# Altium footprint library Connector_Samtec_HLE_SMD.PcbLib: 290 footprints (part 20 of 24)
Each footprint in its own frame and in the unit in brackets; x right, y up, seen from the top. Pads: shape width x height; smd on the part's side, far side on the other; paste and mask are expansions set on the pad; w line width, h text height; cw(c..) or ccw(c..) is an arc to the next point about the centre after c.
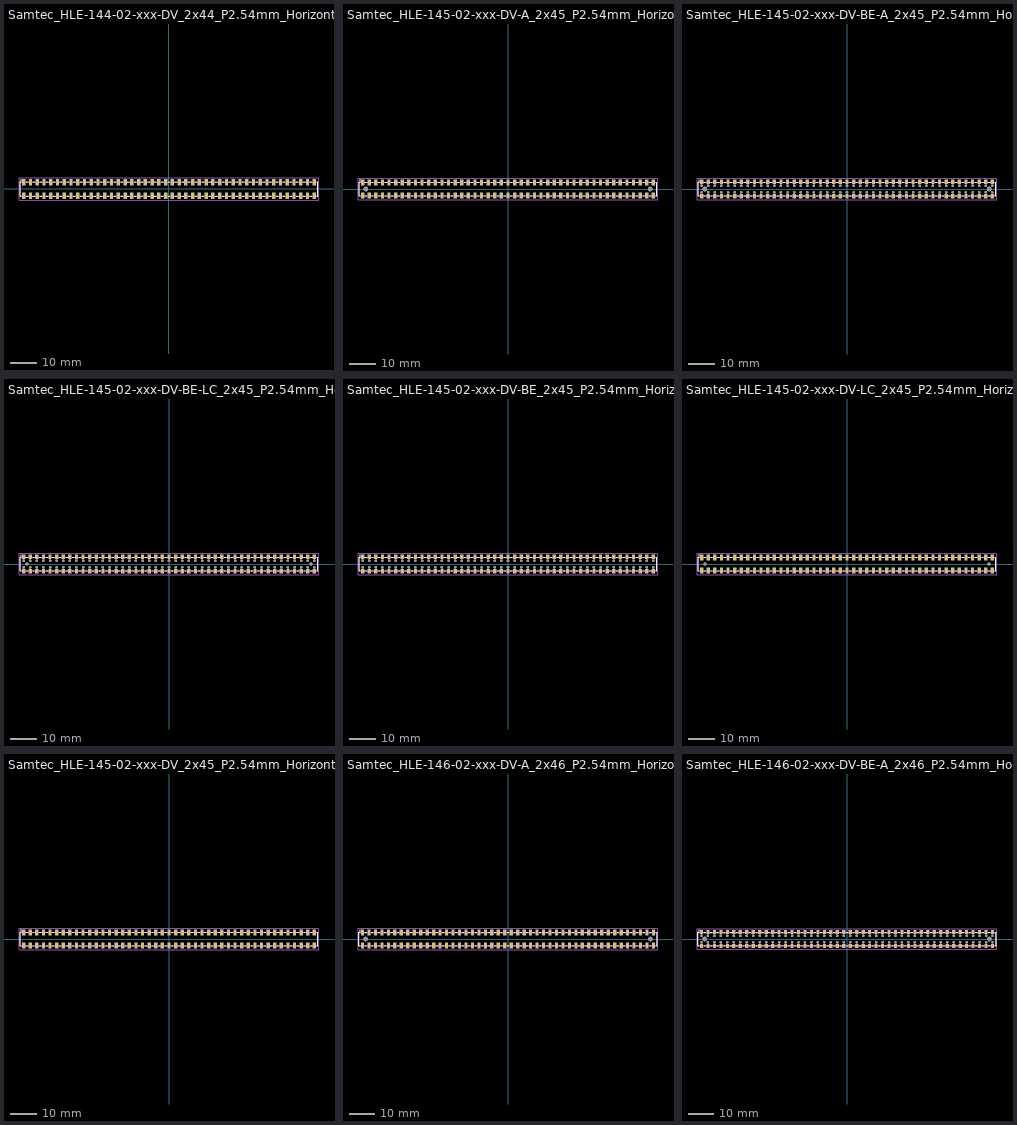
[diagram p19: the footprints below, top view; thin cyan lines are the x and y axes]

## Samtec_HLE-144-02-xxx-DV_2x44_P2.54mm_Horizontal [mm]
pads (88):
  rect 1.27x2.29 smd: 1(-54.61,2.525) 2(-54.61,-2.525) 3(-52.07,2.525) 4(-52.07,-2.525) 5(-49.53,2.525) 6(-49.53,-2.525) 7(-46.99,2.525) 8(-46.99,-2.525) 9(-44.45,2.525) 10(-44.45,-2.525) 11(-41.91,2.525) 12(-41.91,-2.525) 13(-39.37,2.525) 14(-39.37,-2.525) 15(-36.83,2.525) 16(-36.83,-2.525) 17(-34.29,2.525) 18(-34.29,-2.525) 19(-31.75,2.525) 20(-31.75,-2.525) 21(-29.21,2.525) 22(-29.21,-2.525) 23(-26.67,2.525) 24(-26.67,-2.525) 25(-24.13,2.525) 26(-24.13,-2.525) 27(-21.59,2.525) 28(-21.59,-2.525) 29(-19.05,2.525) 30(-19.05,-2.525) 31(-16.51,2.525) 32(-16.51,-2.525) 33(-13.97,2.525) 34(-13.97,-2.525) 35(-11.43,2.525) 36(-11.43,-2.525) 37(-8.89,2.525) 38(-8.89,-2.525) 39(-6.35,2.525) 40(-6.35,-2.525) 41(-3.81,2.525) 42(-3.81,-2.525) 43(-1.27,2.525) 44(-1.27,-2.525) 45(1.27,2.525) 46(1.27,-2.525) 47(3.81,2.525) 48(3.81,-2.525) 49(6.35,2.525) 50(6.35,-2.525) 51(8.89,2.525) 52(8.89,-2.525) 53(11.43,2.525) 54(11.43,-2.525) 55(13.97,2.525) 56(13.97,-2.525) 57(16.51,2.525) 58(16.51,-2.525) 59(19.05,2.525) 60(19.05,-2.525) 61(21.59,2.525) 62(21.59,-2.525) 63(24.13,2.525) 64(24.13,-2.525) 65(26.67,2.525) 66(26.67,-2.525) 67(29.21,2.525) 68(29.21,-2.525) 69(31.75,2.525) 70(31.75,-2.525) 71(34.29,2.525) 72(34.29,-2.525) 73(36.83,2.525) 74(36.83,-2.525) 75(39.37,2.525) 76(39.37,-2.525) 77(41.91,2.525) 78(41.91,-2.525) 79(44.45,2.525) 80(44.45,-2.525) 81(46.99,2.525) 82(46.99,-2.525) 83(49.53,2.525) 84(49.53,-2.525) 85(52.07,2.525) 86(52.07,-2.525) 87(54.61,2.525) 88(54.61,-2.525)
F.SilkS:
  lines w0.254: -55.505,-2.65 -55.99,-2.65 -55.99,2.65 -55.505,2.65 -55.505,3.67 ; -53.715,-2.65 -52.965,-2.65 ; -53.715,2.65 -52.965,2.65 ; -51.175,-2.65 -50.425,-2.65 ; -51.175,2.65 -50.425,2.65 ; -48.635,-2.65 -47.885,-2.65 ; -48.635,2.65 -47.885,2.65 ; -46.095,-2.65 -45.345,-2.65 ; -46.095,2.65 -45.345,2.65 ; -43.555,-2.65 -42.805,-2.65 ; -43.555,2.65 -42.805,2.65 ; -41.015,-2.65 -40.265,-2.65 ; -41.015,2.65 -40.265,2.65 ; -38.475,-2.65 -37.725,-2.65 ; -38.475,2.65 -37.725,2.65 ; -35.935,-2.65 -35.185,-2.65 ; -35.935,2.65 -35.185,2.65 ; -33.395,-2.65 -32.645,-2.65 ; -33.395,2.65 -32.645,2.65 ; -30.855,-2.65 -30.105,-2.65 ; -30.855,2.65 -30.105,2.65 ; -28.315,-2.65 -27.565,-2.65 ; -28.315,2.65 -27.565,2.65 ; -25.775,-2.65 -25.025,-2.65 ; -25.775,2.65 -25.025,2.65 ; -23.235,-2.65 -22.485,-2.65 ; -23.235,2.65 -22.485,2.65 ; -20.695,-2.65 -19.945,-2.65 ; -20.695,2.65 -19.945,2.65 ; -18.155,-2.65 -17.405,-2.65 ; -18.155,2.65 -17.405,2.65 ; -15.615,-2.65 -14.865,-2.65 ; -15.615,2.65 -14.865,2.65 ; -13.075,-2.65 -12.325,-2.65 ; -13.075,2.65 -12.325,2.65 ; -10.535,-2.65 -9.785,-2.65 ; -10.535,2.65 -9.785,2.65 ; -7.995,-2.65 -7.245,-2.65 ; -7.995,2.65 -7.245,2.65 ; -5.455,-2.65 -4.705,-2.65 ; -5.455,2.65 -4.705,2.65 ; -2.915,-2.65 -2.165,-2.65 ; -2.915,2.65 -2.165,2.65 ; -0.375,-2.65 0.375,-2.65 ; -0.375,2.65 0.375,2.65 ; 2.165,-2.65 2.915,-2.65 ; 2.165,2.65 2.915,2.65 ; 4.705,-2.65 5.455,-2.65 ; 4.705,2.65 5.455,2.65 ; 7.245,-2.65 7.995,-2.65 ; 7.245,2.65 7.995,2.65 ; 9.785,-2.65 10.535,-2.65 ; 9.785,2.65 10.535,2.65 ; 12.325,-2.65 13.075,-2.65 ; 12.325,2.65 13.075,2.65 ; 14.865,-2.65 15.615,-2.65 ; 14.865,2.65 15.615,2.65 ; 17.405,-2.65 18.155,-2.65 ; 17.405,2.65 18.155,2.65 ; 19.945,-2.65 20.695,-2.65 ; 19.945,2.65 20.695,2.65 ; 22.485,-2.65 23.235,-2.65 ; 22.485,2.65 23.235,2.65 ; 25.025,-2.65 25.775,-2.65 ; 25.025,2.65 25.775,2.65 ; 27.565,-2.65 28.315,-2.65 ; 27.565,2.65 28.315,2.65 ; 30.105,-2.65 30.855,-2.65 ; 30.105,2.65 30.855,2.65 ; 32.645,-2.65 33.395,-2.65 ; 32.645,2.65 33.395,2.65 ; 35.185,-2.65 35.935,-2.65 ; 35.185,2.65 35.935,2.65 ; 37.725,-2.65 38.475,-2.65 ; 37.725,2.65 38.475,2.65 ; 40.265,-2.65 41.015,-2.65 ; 40.265,2.65 41.015,2.65 ; 42.805,-2.65 43.555,-2.65 ; 42.805,2.65 43.555,2.65 ; 45.345,-2.65 46.095,-2.65 ; 45.345,2.65 46.095,2.65 ; 47.885,-2.65 48.635,-2.65 ; 47.885,2.65 48.635,2.65 ; 50.425,-2.65 51.175,-2.65 ; 50.425,2.65 51.175,2.65 ; 52.965,-2.65 53.715,-2.65 ; 52.965,2.65 53.715,2.65 ; 55.505,-2.65 55.99,-2.65 55.99,2.65 55.505,2.65
Top Assembly:
  lines w0.254: -55.11,2.54 -54.61,1.833 -54.11,2.54 ; -55.88,-2.54 55.88,-2.54 55.88,2.54 -55.88,2.54 -55.88,-2.54
  text "'.Designator'" at -4.047,-2.68 h1
Top Courtyard:
  lines w0.254: -56.38,-4.17 56.38,-4.17 56.38,4.17 -56.38,4.17 -56.38,-4.17
Top Designator:
  text ".Designator" at -7.618,-0.508 h1.52

## Samtec_HLE-145-02-xxx-DV-A_2x45_P2.54mm_Horizontal [mm]
pads (92):
  rect 1.27x2.29 smd: 1(-55.88,2.525) 2(-55.88,-2.525) 3(-53.34,2.525) 4(-53.34,-2.525) 5(-50.8,2.525) 6(-50.8,-2.525) 7(-48.26,2.525) 8(-48.26,-2.525) 9(-45.72,2.525) 10(-45.72,-2.525) 11(-43.18,2.525) 12(-43.18,-2.525) 13(-40.64,2.525) 14(-40.64,-2.525) 15(-38.1,2.525) 16(-38.1,-2.525) 17(-35.56,2.525) 18(-35.56,-2.525) 19(-33.02,2.525) 20(-33.02,-2.525) 21(-30.48,2.525) 22(-30.48,-2.525) 23(-27.94,2.525) 24(-27.94,-2.525) 25(-25.4,2.525) 26(-25.4,-2.525) 27(-22.86,2.525) 28(-22.86,-2.525) 29(-20.32,2.525) 30(-20.32,-2.525) 31(-17.78,2.525) 32(-17.78,-2.525) 33(-15.24,2.525) 34(-15.24,-2.525) 35(-12.7,2.525) 36(-12.7,-2.525) 37(-10.16,2.525) 38(-10.16,-2.525) 39(-7.62,2.525) 40(-7.62,-2.525) 41(-5.08,2.525) 42(-5.08,-2.525) 43(-2.54,2.525) 44(-2.54,-2.525) 45(0,2.525) 46(0,-2.525) 47(2.54,2.525) 48(2.54,-2.525) 49(5.08,2.525) 50(5.08,-2.525) 51(7.62,2.525) 52(7.62,-2.525) 53(10.16,2.525) 54(10.16,-2.525) 55(12.7,2.525) 56(12.7,-2.525) 57(15.24,2.525) 58(15.24,-2.525) 59(17.78,2.525) 60(17.78,-2.525) 61(20.32,2.525) 62(20.32,-2.525) 63(22.86,2.525) 64(22.86,-2.525) 65(25.4,2.525) 66(25.4,-2.525) 67(27.94,2.525) 68(27.94,-2.525) 69(30.48,2.525) 70(30.48,-2.525) 71(33.02,2.525) 72(33.02,-2.525) 73(35.56,2.525) 74(35.56,-2.525) 75(38.1,2.525) 76(38.1,-2.525) 77(40.64,2.525) 78(40.64,-2.525) 79(43.18,2.525) 80(43.18,-2.525) 81(45.72,2.525) 82(45.72,-2.525) 83(48.26,2.525) 84(48.26,-2.525) 85(50.8,2.525) 86(50.8,-2.525) 87(53.34,2.525) 88(53.34,-2.525) 89(55.88,2.525) 90(55.88,-2.525)
  round 1.78 hole 1.78: Un1(-54.61,0) Un2(54.61,0)
F.SilkS:
  lines w0.254: -56.775,-2.65 -57.26,-2.65 -57.26,2.65 -56.775,2.65 -56.775,3.67 ; -54.985,-2.65 -54.235,-2.65 ; -54.985,2.65 -54.235,2.65 ; -52.445,-2.65 -51.695,-2.65 ; -52.445,2.65 -51.695,2.65 ; -49.905,-2.65 -49.155,-2.65 ; -49.905,2.65 -49.155,2.65 ; -47.365,-2.65 -46.615,-2.65 ; -47.365,2.65 -46.615,2.65 ; -44.825,-2.65 -44.075,-2.65 ; -44.825,2.65 -44.075,2.65 ; -42.285,-2.65 -41.535,-2.65 ; -42.285,2.65 -41.535,2.65 ; -39.745,-2.65 -38.995,-2.65 ; -39.745,2.65 -38.995,2.65 ; -37.205,-2.65 -36.455,-2.65 ; -37.205,2.65 -36.455,2.65 ; -34.665,-2.65 -33.915,-2.65 ; -34.665,2.65 -33.915,2.65 ; -32.125,-2.65 -31.375,-2.65 ; -32.125,2.65 -31.375,2.65 ; -29.585,-2.65 -28.835,-2.65 ; -29.585,2.65 -28.835,2.65 ; -27.045,-2.65 -26.295,-2.65 ; -27.045,2.65 -26.295,2.65 ; -24.505,-2.65 -23.755,-2.65 ; -24.505,2.65 -23.755,2.65 ; -21.965,-2.65 -21.215,-2.65 ; -21.965,2.65 -21.215,2.65 ; -19.425,-2.65 -18.675,-2.65 ; -19.425,2.65 -18.675,2.65 ; -16.885,-2.65 -16.135,-2.65 ; -16.885,2.65 -16.135,2.65 ; -14.345,-2.65 -13.595,-2.65 ; -14.345,2.65 -13.595,2.65 ; -11.805,-2.65 -11.055,-2.65 ; -11.805,2.65 -11.055,2.65 ; -9.265,-2.65 -8.515,-2.65 ; -9.265,2.65 -8.515,2.65 ; -6.725,-2.65 -5.975,-2.65 ; -6.725,2.65 -5.975,2.65 ; -4.185,-2.65 -3.435,-2.65 ; -4.185,2.65 -3.435,2.65 ; -1.645,-2.65 -0.895,-2.65 ; -1.645,2.65 -0.895,2.65 ; 0.895,-2.65 1.645,-2.65 ; 0.895,2.65 1.645,2.65 ; 3.435,-2.65 4.185,-2.65 ; 3.435,2.65 4.185,2.65 ; 5.975,-2.65 6.725,-2.65 ; 5.975,2.65 6.725,2.65 ; 8.515,-2.65 9.265,-2.65 ; 8.515,2.65 9.265,2.65 ; 11.055,-2.65 11.805,-2.65 ; 11.055,2.65 11.805,2.65 ; 13.595,-2.65 14.345,-2.65 ; 13.595,2.65 14.345,2.65 ; 16.135,-2.65 16.885,-2.65 ; 16.135,2.65 16.885,2.65 ; 18.675,-2.65 19.425,-2.65 ; 18.675,2.65 19.425,2.65 ; 21.215,-2.65 21.965,-2.65 ; 21.215,2.65 21.965,2.65 ; 23.755,-2.65 24.505,-2.65 ; 23.755,2.65 24.505,2.65 ; 26.295,-2.65 27.045,-2.65 ; 26.295,2.65 27.045,2.65 ; 28.835,-2.65 29.585,-2.65 ; 28.835,2.65 29.585,2.65 ; 31.375,-2.65 32.125,-2.65 ; 31.375,2.65 32.125,2.65 ; 33.915,-2.65 34.665,-2.65 ; 33.915,2.65 34.665,2.65 ; 36.455,-2.65 37.205,-2.65 ; 36.455,2.65 37.205,2.65 ; 38.995,-2.65 39.745,-2.65 ; 38.995,2.65 39.745,2.65 ; 41.535,-2.65 42.285,-2.65 ; 41.535,2.65 42.285,2.65 ; 44.075,-2.65 44.825,-2.65 ; 44.075,2.65 44.825,2.65 ; 46.615,-2.65 47.365,-2.65 ; 46.615,2.65 47.365,2.65 ; 49.155,-2.65 49.905,-2.65 ; 49.155,2.65 49.905,2.65 ; 51.695,-2.65 52.445,-2.65 ; 51.695,2.65 52.445,2.65 ; 54.235,-2.65 54.985,-2.65 ; 54.235,2.65 54.985,2.65 ; 56.775,-2.65 57.26,-2.65 57.26,2.65 56.775,2.65
Top Assembly:
  lines w0.254: -56.38,2.54 -55.88,1.833 -55.38,2.54 ; -57.15,-2.54 57.15,-2.54 57.15,2.54 -57.15,2.54 -57.15,-2.54
  text "'.Designator'" at -4.047,-2.68 h1
Top Courtyard:
  lines w0.254: -57.65,-4.17 57.65,-4.17 57.65,4.17 -57.65,4.17 -57.65,-4.17
Top Designator:
  text ".Designator" at -7.618,-0.508 h1.52

## Samtec_HLE-145-02-xxx-DV-BE-A_2x45_P2.54mm_Horizontal [mm]
pads (182):
  rect 1.27x1.68 smd: 1(-55.88,2.72) 2(-55.88,-2.72) 3(-53.34,2.72) 4(-53.34,-2.72) 5(-50.8,2.72) 6(-50.8,-2.72) 7(-48.26,2.72) 8(-48.26,-2.72) 9(-45.72,2.72) 10(-45.72,-2.72) 11(-43.18,2.72) 12(-43.18,-2.72) 13(-40.64,2.72) 14(-40.64,-2.72) 15(-38.1,2.72) 16(-38.1,-2.72) 17(-35.56,2.72) 18(-35.56,-2.72) 19(-33.02,2.72) 20(-33.02,-2.72) 21(-30.48,2.72) 22(-30.48,-2.72) 23(-27.94,2.72) 24(-27.94,-2.72) 25(-25.4,2.72) 26(-25.4,-2.72) 27(-22.86,2.72) 28(-22.86,-2.72) 29(-20.32,2.72) 30(-20.32,-2.72) 31(-17.78,2.72) 32(-17.78,-2.72) 33(-15.24,2.72) 34(-15.24,-2.72) 35(-12.7,2.72) 36(-12.7,-2.72) 37(-10.16,2.72) 38(-10.16,-2.72) 39(-7.62,2.72) 40(-7.62,-2.72) 41(-5.08,2.72) 42(-5.08,-2.72) 43(-2.54,2.72) 44(-2.54,-2.72) 45(0,2.72) 46(0,-2.72) 47(2.54,2.72) 48(2.54,-2.72) 49(5.08,2.72) 50(5.08,-2.72) 51(7.62,2.72) 52(7.62,-2.72) 53(10.16,2.72) 54(10.16,-2.72) 55(12.7,2.72) 56(12.7,-2.72) 57(15.24,2.72) 58(15.24,-2.72) 59(17.78,2.72) 60(17.78,-2.72) 61(20.32,2.72) 62(20.32,-2.72) 63(22.86,2.72) 64(22.86,-2.72) 65(25.4,2.72) 66(25.4,-2.72) 67(27.94,2.72) 68(27.94,-2.72) 69(30.48,2.72) 70(30.48,-2.72) 71(33.02,2.72) 72(33.02,-2.72) 73(35.56,2.72) 74(35.56,-2.72) 75(38.1,2.72) 76(38.1,-2.72) 77(40.64,2.72) 78(40.64,-2.72) 79(43.18,2.72) 80(43.18,-2.72) 81(45.72,2.72) 82(45.72,-2.72) 83(48.26,2.72) 84(48.26,-2.72) 85(50.8,2.72) 86(50.8,-2.72) 87(53.34,2.72) 88(53.34,-2.72) 89(55.88,2.72) 90(55.88,-2.72)
  round 0.97 hole 0.97: Un1(-55.88,1.27) Un2(-55.88,-1.27) Un4(-53.34,1.27) Un5(-53.34,-1.27) Un6(-50.8,1.27) Un7(-50.8,-1.27) Un8(-48.26,1.27) Un9(-48.26,-1.27) Un10(-45.72,1.27) Un11(-45.72,-1.27) Un12(-43.18,1.27) Un13(-43.18,-1.27) Un14(-40.64,1.27) Un15(-40.64,-1.27) Un16(-38.1,1.27) Un17(-38.1,-1.27) Un18(-35.56,1.27) Un19(-35.56,-1.27) Un20(-33.02,1.27) Un21(-33.02,-1.27) Un22(-30.48,1.27) Un23(-30.48,-1.27) Un24(-27.94,1.27) Un25(-27.94,-1.27) Un26(-25.4,1.27) Un27(-25.4,-1.27) Un28(-22.86,1.27) Un29(-22.86,-1.27) Un30(-20.32,1.27) Un31(-20.32,-1.27) Un32(-17.78,1.27) Un33(-17.78,-1.27) Un34(-15.24,1.27) Un35(-15.24,-1.27) Un36(-12.7,1.27) Un37(-12.7,-1.27) Un38(-10.16,1.27) Un39(-10.16,-1.27) Un40(-7.62,1.27) Un41(-7.62,-1.27) Un42(-5.08,1.27) Un43(-5.08,-1.27) Un44(-2.54,1.27) Un45(-2.54,-1.27) Un46(0,1.27) Un47(0,-1.27) Un48(2.54,1.27) Un49(2.54,-1.27) Un50(5.08,1.27) Un51(5.08,-1.27) Un52(7.62,1.27) Un53(7.62,-1.27) Un54(10.16,1.27) Un55(10.16,-1.27) Un56(12.7,1.27) Un57(12.7,-1.27) Un58(15.24,1.27) Un59(15.24,-1.27) Un60(17.78,1.27) Un61(17.78,-1.27) Un62(20.32,1.27) Un63(20.32,-1.27) Un64(22.86,1.27) Un65(22.86,-1.27) Un66(25.4,1.27) Un67(25.4,-1.27) Un68(27.94,1.27) Un69(27.94,-1.27) Un70(30.48,1.27) Un71(30.48,-1.27) Un72(33.02,1.27) Un73(33.02,-1.27) Un74(35.56,1.27) Un75(35.56,-1.27) Un76(38.1,1.27) Un77(38.1,-1.27) Un78(40.64,1.27) Un79(40.64,-1.27) Un80(43.18,1.27) Un81(43.18,-1.27) Un82(45.72,1.27) Un83(45.72,-1.27) Un84(48.26,1.27) Un85(48.26,-1.27) Un86(50.8,1.27) Un87(50.8,-1.27) Un88(53.34,1.27) Un89(53.34,-1.27) Un91(55.88,1.27) Un92(55.88,-1.27)
  round 1.78 hole 1.78: Un3(-54.61,0) Un90(54.61,0)
F.SilkS:
  lines w0.254: -56.775,-2.65 -57.26,-2.65 -57.26,2.65 -56.775,2.65 -56.775,3.56 ; -54.985,-2.65 -54.235,-2.65 ; -54.985,2.65 -54.235,2.65 ; -52.445,-2.65 -51.695,-2.65 ; -52.445,2.65 -51.695,2.65 ; -49.905,-2.65 -49.155,-2.65 ; -49.905,2.65 -49.155,2.65 ; -47.365,-2.65 -46.615,-2.65 ; -47.365,2.65 -46.615,2.65 ; -44.825,-2.65 -44.075,-2.65 ; -44.825,2.65 -44.075,2.65 ; -42.285,-2.65 -41.535,-2.65 ; -42.285,2.65 -41.535,2.65 ; -39.745,-2.65 -38.995,-2.65 ; -39.745,2.65 -38.995,2.65 ; -37.205,-2.65 -36.455,-2.65 ; -37.205,2.65 -36.455,2.65 ; -34.665,-2.65 -33.915,-2.65 ; -34.665,2.65 -33.915,2.65 ; -32.125,-2.65 -31.375,-2.65 ; -32.125,2.65 -31.375,2.65 ; -29.585,-2.65 -28.835,-2.65 ; -29.585,2.65 -28.835,2.65 ; -27.045,-2.65 -26.295,-2.65 ; -27.045,2.65 -26.295,2.65 ; -24.505,-2.65 -23.755,-2.65 ; -24.505,2.65 -23.755,2.65 ; -21.965,-2.65 -21.215,-2.65 ; -21.965,2.65 -21.215,2.65 ; -19.425,-2.65 -18.675,-2.65 ; -19.425,2.65 -18.675,2.65 ; -16.885,-2.65 -16.135,-2.65 ; -16.885,2.65 -16.135,2.65 ; -14.345,-2.65 -13.595,-2.65 ; -14.345,2.65 -13.595,2.65 ; -11.805,-2.65 -11.055,-2.65 ; -11.805,2.65 -11.055,2.65 ; -9.265,-2.65 -8.515,-2.65 ; -9.265,2.65 -8.515,2.65 ; -6.725,-2.65 -5.975,-2.65 ; -6.725,2.65 -5.975,2.65 ; -4.185,-2.65 -3.435,-2.65 ; -4.185,2.65 -3.435,2.65 ; -1.645,-2.65 -0.895,-2.65 ; -1.645,2.65 -0.895,2.65 ; 0.895,-2.65 1.645,-2.65 ; 0.895,2.65 1.645,2.65 ; 3.435,-2.65 4.185,-2.65 ; 3.435,2.65 4.185,2.65 ; 5.975,-2.65 6.725,-2.65 ; 5.975,2.65 6.725,2.65 ; 8.515,-2.65 9.265,-2.65 ; 8.515,2.65 9.265,2.65 ; 11.055,-2.65 11.805,-2.65 ; 11.055,2.65 11.805,2.65 ; 13.595,-2.65 14.345,-2.65 ; 13.595,2.65 14.345,2.65 ; 16.135,-2.65 16.885,-2.65 ; 16.135,2.65 16.885,2.65 ; 18.675,-2.65 19.425,-2.65 ; 18.675,2.65 19.425,2.65 ; 21.215,-2.65 21.965,-2.65 ; 21.215,2.65 21.965,2.65 ; 23.755,-2.65 24.505,-2.65 ; 23.755,2.65 24.505,2.65 ; 26.295,-2.65 27.045,-2.65 ; 26.295,2.65 27.045,2.65 ; 28.835,-2.65 29.585,-2.65 ; 28.835,2.65 29.585,2.65 ; 31.375,-2.65 32.125,-2.65 ; 31.375,2.65 32.125,2.65 ; 33.915,-2.65 34.665,-2.65 ; 33.915,2.65 34.665,2.65 ; 36.455,-2.65 37.205,-2.65 ; 36.455,2.65 37.205,2.65 ; 38.995,-2.65 39.745,-2.65 ; 38.995,2.65 39.745,2.65 ; 41.535,-2.65 42.285,-2.65 ; 41.535,2.65 42.285,2.65 ; 44.075,-2.65 44.825,-2.65 ; 44.075,2.65 44.825,2.65 ; 46.615,-2.65 47.365,-2.65 ; 46.615,2.65 47.365,2.65 ; 49.155,-2.65 49.905,-2.65 ; 49.155,2.65 49.905,2.65 ; 51.695,-2.65 52.445,-2.65 ; 51.695,2.65 52.445,2.65 ; 54.235,-2.65 54.985,-2.65 ; 54.235,2.65 54.985,2.65 ; 56.775,-2.65 57.26,-2.65 57.26,2.65 56.775,2.65
Top Assembly:
  lines w0.254: -56.38,2.54 -55.88,1.833 -55.38,2.54 ; -57.15,-2.54 57.15,-2.54 57.15,2.54 -57.15,2.54 -57.15,-2.54
  text "'.Designator'" at -4.047,-2.68 h1
Top Courtyard:
  lines w0.254: -57.65,-4.07 57.65,-4.07 57.65,4.07 -57.65,4.07 -57.65,-4.07
Top Designator:
  text ".Designator" at -7.618,-0.508 h1.52

## Samtec_HLE-145-02-xxx-DV-BE-LC_2x45_P2.54mm_Horizontal [mm]
pads (182):
  rect 1.27x1.68 smd: 1(-55.88,2.72) 2(-55.88,-2.72) 3(-53.34,2.72) 4(-53.34,-2.72) 5(-50.8,2.72) 6(-50.8,-2.72) 7(-48.26,2.72) 8(-48.26,-2.72) 9(-45.72,2.72) 10(-45.72,-2.72) 11(-43.18,2.72) 12(-43.18,-2.72) 13(-40.64,2.72) 14(-40.64,-2.72) 15(-38.1,2.72) 16(-38.1,-2.72) 17(-35.56,2.72) 18(-35.56,-2.72) 19(-33.02,2.72) 20(-33.02,-2.72) 21(-30.48,2.72) 22(-30.48,-2.72) 23(-27.94,2.72) 24(-27.94,-2.72) 25(-25.4,2.72) 26(-25.4,-2.72) 27(-22.86,2.72) 28(-22.86,-2.72) 29(-20.32,2.72) 30(-20.32,-2.72) 31(-17.78,2.72) 32(-17.78,-2.72) 33(-15.24,2.72) 34(-15.24,-2.72) 35(-12.7,2.72) 36(-12.7,-2.72) 37(-10.16,2.72) 38(-10.16,-2.72) 39(-7.62,2.72) 40(-7.62,-2.72) 41(-5.08,2.72) 42(-5.08,-2.72) 43(-2.54,2.72) 44(-2.54,-2.72) 45(0,2.72) 46(0,-2.72) 47(2.54,2.72) 48(2.54,-2.72) 49(5.08,2.72) 50(5.08,-2.72) 51(7.62,2.72) 52(7.62,-2.72) 53(10.16,2.72) 54(10.16,-2.72) 55(12.7,2.72) 56(12.7,-2.72) 57(15.24,2.72) 58(15.24,-2.72) 59(17.78,2.72) 60(17.78,-2.72) 61(20.32,2.72) 62(20.32,-2.72) 63(22.86,2.72) 64(22.86,-2.72) 65(25.4,2.72) 66(25.4,-2.72) 67(27.94,2.72) 68(27.94,-2.72) 69(30.48,2.72) 70(30.48,-2.72) 71(33.02,2.72) 72(33.02,-2.72) 73(35.56,2.72) 74(35.56,-2.72) 75(38.1,2.72) 76(38.1,-2.72) 77(40.64,2.72) 78(40.64,-2.72) 79(43.18,2.72) 80(43.18,-2.72) 81(45.72,2.72) 82(45.72,-2.72) 83(48.26,2.72) 84(48.26,-2.72) 85(50.8,2.72) 86(50.8,-2.72) 87(53.34,2.72) 88(53.34,-2.72) 89(55.88,2.72) 90(55.88,-2.72)
  round 0.97 hole 0.97: Un1(-55.88,1.27) Un2(-55.88,-1.27) Un4(-53.34,1.27) Un5(-53.34,-1.27) Un6(-50.8,1.27) Un7(-50.8,-1.27) Un8(-48.26,1.27) Un9(-48.26,-1.27) Un10(-45.72,1.27) Un11(-45.72,-1.27) Un12(-43.18,1.27) Un13(-43.18,-1.27) Un14(-40.64,1.27) Un15(-40.64,-1.27) Un16(-38.1,1.27) Un17(-38.1,-1.27) Un18(-35.56,1.27) Un19(-35.56,-1.27) Un20(-33.02,1.27) Un21(-33.02,-1.27) Un22(-30.48,1.27) Un23(-30.48,-1.27) Un24(-27.94,1.27) Un25(-27.94,-1.27) Un26(-25.4,1.27) Un27(-25.4,-1.27) Un28(-22.86,1.27) Un29(-22.86,-1.27) Un30(-20.32,1.27) Un31(-20.32,-1.27) Un32(-17.78,1.27) Un33(-17.78,-1.27) Un34(-15.24,1.27) Un35(-15.24,-1.27) Un36(-12.7,1.27) Un37(-12.7,-1.27) Un38(-10.16,1.27) Un39(-10.16,-1.27) Un40(-7.62,1.27) Un41(-7.62,-1.27) Un42(-5.08,1.27) Un43(-5.08,-1.27) Un44(-2.54,1.27) Un45(-2.54,-1.27) Un46(0,1.27) Un47(0,-1.27) Un48(2.54,1.27) Un49(2.54,-1.27) Un50(5.08,1.27) Un51(5.08,-1.27) Un52(7.62,1.27) Un53(7.62,-1.27) Un54(10.16,1.27) Un55(10.16,-1.27) Un56(12.7,1.27) Un57(12.7,-1.27) Un58(15.24,1.27) Un59(15.24,-1.27) Un60(17.78,1.27) Un61(17.78,-1.27) Un62(20.32,1.27) Un63(20.32,-1.27) Un64(22.86,1.27) Un65(22.86,-1.27) Un66(25.4,1.27) Un67(25.4,-1.27) Un68(27.94,1.27) Un69(27.94,-1.27) Un70(30.48,1.27) Un71(30.48,-1.27) Un72(33.02,1.27) Un73(33.02,-1.27) Un74(35.56,1.27) Un75(35.56,-1.27) Un76(38.1,1.27) Un77(38.1,-1.27) Un78(40.64,1.27) Un79(40.64,-1.27) Un80(43.18,1.27) Un81(43.18,-1.27) Un82(45.72,1.27) Un83(45.72,-1.27) Un84(48.26,1.27) Un85(48.26,-1.27) Un86(50.8,1.27) Un87(50.8,-1.27) Un88(53.34,1.27) Un89(53.34,-1.27) Un91(55.88,1.27) Un92(55.88,-1.27)
  round 1.19 hole 1.19: Un3(-54.61,0) Un90(54.61,0)
F.SilkS:
  lines w0.254: -56.775,-2.65 -57.26,-2.65 -57.26,2.65 -56.775,2.65 -56.775,3.56 ; -54.985,-2.65 -54.235,-2.65 ; -54.985,2.65 -54.235,2.65 ; -52.445,-2.65 -51.695,-2.65 ; -52.445,2.65 -51.695,2.65 ; -49.905,-2.65 -49.155,-2.65 ; -49.905,2.65 -49.155,2.65 ; -47.365,-2.65 -46.615,-2.65 ; -47.365,2.65 -46.615,2.65 ; -44.825,-2.65 -44.075,-2.65 ; -44.825,2.65 -44.075,2.65 ; -42.285,-2.65 -41.535,-2.65 ; -42.285,2.65 -41.535,2.65 ; -39.745,-2.65 -38.995,-2.65 ; -39.745,2.65 -38.995,2.65 ; -37.205,-2.65 -36.455,-2.65 ; -37.205,2.65 -36.455,2.65 ; -34.665,-2.65 -33.915,-2.65 ; -34.665,2.65 -33.915,2.65 ; -32.125,-2.65 -31.375,-2.65 ; -32.125,2.65 -31.375,2.65 ; -29.585,-2.65 -28.835,-2.65 ; -29.585,2.65 -28.835,2.65 ; -27.045,-2.65 -26.295,-2.65 ; -27.045,2.65 -26.295,2.65 ; -24.505,-2.65 -23.755,-2.65 ; -24.505,2.65 -23.755,2.65 ; -21.965,-2.65 -21.215,-2.65 ; -21.965,2.65 -21.215,2.65 ; -19.425,-2.65 -18.675,-2.65 ; -19.425,2.65 -18.675,2.65 ; -16.885,-2.65 -16.135,-2.65 ; -16.885,2.65 -16.135,2.65 ; -14.345,-2.65 -13.595,-2.65 ; -14.345,2.65 -13.595,2.65 ; -11.805,-2.65 -11.055,-2.65 ; -11.805,2.65 -11.055,2.65 ; -9.265,-2.65 -8.515,-2.65 ; -9.265,2.65 -8.515,2.65 ; -6.725,-2.65 -5.975,-2.65 ; -6.725,2.65 -5.975,2.65 ; -4.185,-2.65 -3.435,-2.65 ; -4.185,2.65 -3.435,2.65 ; -1.645,-2.65 -0.895,-2.65 ; -1.645,2.65 -0.895,2.65 ; 0.895,-2.65 1.645,-2.65 ; 0.895,2.65 1.645,2.65 ; 3.435,-2.65 4.185,-2.65 ; 3.435,2.65 4.185,2.65 ; 5.975,-2.65 6.725,-2.65 ; 5.975,2.65 6.725,2.65 ; 8.515,-2.65 9.265,-2.65 ; 8.515,2.65 9.265,2.65 ; 11.055,-2.65 11.805,-2.65 ; 11.055,2.65 11.805,2.65 ; 13.595,-2.65 14.345,-2.65 ; 13.595,2.65 14.345,2.65 ; 16.135,-2.65 16.885,-2.65 ; 16.135,2.65 16.885,2.65 ; 18.675,-2.65 19.425,-2.65 ; 18.675,2.65 19.425,2.65 ; 21.215,-2.65 21.965,-2.65 ; 21.215,2.65 21.965,2.65 ; 23.755,-2.65 24.505,-2.65 ; 23.755,2.65 24.505,2.65 ; 26.295,-2.65 27.045,-2.65 ; 26.295,2.65 27.045,2.65 ; 28.835,-2.65 29.585,-2.65 ; 28.835,2.65 29.585,2.65 ; 31.375,-2.65 32.125,-2.65 ; 31.375,2.65 32.125,2.65 ; 33.915,-2.65 34.665,-2.65 ; 33.915,2.65 34.665,2.65 ; 36.455,-2.65 37.205,-2.65 ; 36.455,2.65 37.205,2.65 ; 38.995,-2.65 39.745,-2.65 ; 38.995,2.65 39.745,2.65 ; 41.535,-2.65 42.285,-2.65 ; 41.535,2.65 42.285,2.65 ; 44.075,-2.65 44.825,-2.65 ; 44.075,2.65 44.825,2.65 ; 46.615,-2.65 47.365,-2.65 ; 46.615,2.65 47.365,2.65 ; 49.155,-2.65 49.905,-2.65 ; 49.155,2.65 49.905,2.65 ; 51.695,-2.65 52.445,-2.65 ; 51.695,2.65 52.445,2.65 ; 54.235,-2.65 54.985,-2.65 ; 54.235,2.65 54.985,2.65 ; 56.775,-2.65 57.26,-2.65 57.26,2.65 56.775,2.65
Top Assembly:
  lines w0.254: -56.38,2.54 -55.88,1.833 -55.38,2.54 ; -57.15,-2.54 57.15,-2.54 57.15,2.54 -57.15,2.54 -57.15,-2.54
  text "'.Designator'" at -4.047,-2.68 h1
Top Courtyard:
  lines w0.254: -57.65,-4.07 57.65,-4.07 57.65,4.07 -57.65,4.07 -57.65,-4.07
Top Designator:
  text ".Designator" at -7.618,-0.508 h1.52

## Samtec_HLE-145-02-xxx-DV-BE_2x45_P2.54mm_Horizontal [mm]
pads (180):
  rect 1.27x1.68 smd: 1(-55.88,2.72) 2(-55.88,-2.72) 3(-53.34,2.72) 4(-53.34,-2.72) 5(-50.8,2.72) 6(-50.8,-2.72) 7(-48.26,2.72) 8(-48.26,-2.72) 9(-45.72,2.72) 10(-45.72,-2.72) 11(-43.18,2.72) 12(-43.18,-2.72) 13(-40.64,2.72) 14(-40.64,-2.72) 15(-38.1,2.72) 16(-38.1,-2.72) 17(-35.56,2.72) 18(-35.56,-2.72) 19(-33.02,2.72) 20(-33.02,-2.72) 21(-30.48,2.72) 22(-30.48,-2.72) 23(-27.94,2.72) 24(-27.94,-2.72) 25(-25.4,2.72) 26(-25.4,-2.72) 27(-22.86,2.72) 28(-22.86,-2.72) 29(-20.32,2.72) 30(-20.32,-2.72) 31(-17.78,2.72) 32(-17.78,-2.72) 33(-15.24,2.72) 34(-15.24,-2.72) 35(-12.7,2.72) 36(-12.7,-2.72) 37(-10.16,2.72) 38(-10.16,-2.72) 39(-7.62,2.72) 40(-7.62,-2.72) 41(-5.08,2.72) 42(-5.08,-2.72) 43(-2.54,2.72) 44(-2.54,-2.72) 45(0,2.72) 46(0,-2.72) 47(2.54,2.72) 48(2.54,-2.72) 49(5.08,2.72) 50(5.08,-2.72) 51(7.62,2.72) 52(7.62,-2.72) 53(10.16,2.72) 54(10.16,-2.72) 55(12.7,2.72) 56(12.7,-2.72) 57(15.24,2.72) 58(15.24,-2.72) 59(17.78,2.72) 60(17.78,-2.72) 61(20.32,2.72) 62(20.32,-2.72) 63(22.86,2.72) 64(22.86,-2.72) 65(25.4,2.72) 66(25.4,-2.72) 67(27.94,2.72) 68(27.94,-2.72) 69(30.48,2.72) 70(30.48,-2.72) 71(33.02,2.72) 72(33.02,-2.72) 73(35.56,2.72) 74(35.56,-2.72) 75(38.1,2.72) 76(38.1,-2.72) 77(40.64,2.72) 78(40.64,-2.72) 79(43.18,2.72) 80(43.18,-2.72) 81(45.72,2.72) 82(45.72,-2.72) 83(48.26,2.72) 84(48.26,-2.72) 85(50.8,2.72) 86(50.8,-2.72) 87(53.34,2.72) 88(53.34,-2.72) 89(55.88,2.72) 90(55.88,-2.72)
  round 0.97 hole 0.97: Un1(-55.88,1.27) Un2(-55.88,-1.27) Un3(-53.34,1.27) Un4(-53.34,-1.27) Un5(-50.8,1.27) Un6(-50.8,-1.27) Un7(-48.26,1.27) Un8(-48.26,-1.27) Un9(-45.72,1.27) Un10(-45.72,-1.27) Un11(-43.18,1.27) Un12(-43.18,-1.27) Un13(-40.64,1.27) Un14(-40.64,-1.27) Un15(-38.1,1.27) Un16(-38.1,-1.27) Un17(-35.56,1.27) Un18(-35.56,-1.27) Un19(-33.02,1.27) Un20(-33.02,-1.27) Un21(-30.48,1.27) Un22(-30.48,-1.27) Un23(-27.94,1.27) Un24(-27.94,-1.27) Un25(-25.4,1.27) Un26(-25.4,-1.27) Un27(-22.86,1.27) Un28(-22.86,-1.27) Un29(-20.32,1.27) Un30(-20.32,-1.27) Un31(-17.78,1.27) Un32(-17.78,-1.27) Un33(-15.24,1.27) Un34(-15.24,-1.27) Un35(-12.7,1.27) Un36(-12.7,-1.27) Un37(-10.16,1.27) Un38(-10.16,-1.27) Un39(-7.62,1.27) Un40(-7.62,-1.27) Un41(-5.08,1.27) Un42(-5.08,-1.27) Un43(-2.54,1.27) Un44(-2.54,-1.27) Un45(0,1.27) Un46(0,-1.27) Un47(2.54,1.27) Un48(2.54,-1.27) Un49(5.08,1.27) Un50(5.08,-1.27) Un51(7.62,1.27) Un52(7.62,-1.27) Un53(10.16,1.27) Un54(10.16,-1.27) Un55(12.7,1.27) Un56(12.7,-1.27) Un57(15.24,1.27) Un58(15.24,-1.27) Un59(17.78,1.27) Un60(17.78,-1.27) Un61(20.32,1.27) Un62(20.32,-1.27) Un63(22.86,1.27) Un64(22.86,-1.27) Un65(25.4,1.27) Un66(25.4,-1.27) Un67(27.94,1.27) Un68(27.94,-1.27) Un69(30.48,1.27) Un70(30.48,-1.27) Un71(33.02,1.27) Un72(33.02,-1.27) Un73(35.56,1.27) Un74(35.56,-1.27) Un75(38.1,1.27) Un76(38.1,-1.27) Un77(40.64,1.27) Un78(40.64,-1.27) Un79(43.18,1.27) Un80(43.18,-1.27) Un81(45.72,1.27) Un82(45.72,-1.27) Un83(48.26,1.27) Un84(48.26,-1.27) Un85(50.8,1.27) Un86(50.8,-1.27) Un87(53.34,1.27) Un88(53.34,-1.27) Un89(55.88,1.27) Un90(55.88,-1.27)
F.SilkS:
  lines w0.254: -56.775,-2.65 -57.26,-2.65 -57.26,2.65 -56.775,2.65 -56.775,3.56 ; -54.985,-2.65 -54.235,-2.65 ; -54.985,2.65 -54.235,2.65 ; -52.445,-2.65 -51.695,-2.65 ; -52.445,2.65 -51.695,2.65 ; -49.905,-2.65 -49.155,-2.65 ; -49.905,2.65 -49.155,2.65 ; -47.365,-2.65 -46.615,-2.65 ; -47.365,2.65 -46.615,2.65 ; -44.825,-2.65 -44.075,-2.65 ; -44.825,2.65 -44.075,2.65 ; -42.285,-2.65 -41.535,-2.65 ; -42.285,2.65 -41.535,2.65 ; -39.745,-2.65 -38.995,-2.65 ; -39.745,2.65 -38.995,2.65 ; -37.205,-2.65 -36.455,-2.65 ; -37.205,2.65 -36.455,2.65 ; -34.665,-2.65 -33.915,-2.65 ; -34.665,2.65 -33.915,2.65 ; -32.125,-2.65 -31.375,-2.65 ; -32.125,2.65 -31.375,2.65 ; -29.585,-2.65 -28.835,-2.65 ; -29.585,2.65 -28.835,2.65 ; -27.045,-2.65 -26.295,-2.65 ; -27.045,2.65 -26.295,2.65 ; -24.505,-2.65 -23.755,-2.65 ; -24.505,2.65 -23.755,2.65 ; -21.965,-2.65 -21.215,-2.65 ; -21.965,2.65 -21.215,2.65 ; -19.425,-2.65 -18.675,-2.65 ; -19.425,2.65 -18.675,2.65 ; -16.885,-2.65 -16.135,-2.65 ; -16.885,2.65 -16.135,2.65 ; -14.345,-2.65 -13.595,-2.65 ; -14.345,2.65 -13.595,2.65 ; -11.805,-2.65 -11.055,-2.65 ; -11.805,2.65 -11.055,2.65 ; -9.265,-2.65 -8.515,-2.65 ; -9.265,2.65 -8.515,2.65 ; -6.725,-2.65 -5.975,-2.65 ; -6.725,2.65 -5.975,2.65 ; -4.185,-2.65 -3.435,-2.65 ; -4.185,2.65 -3.435,2.65 ; -1.645,-2.65 -0.895,-2.65 ; -1.645,2.65 -0.895,2.65 ; 0.895,-2.65 1.645,-2.65 ; 0.895,2.65 1.645,2.65 ; 3.435,-2.65 4.185,-2.65 ; 3.435,2.65 4.185,2.65 ; 5.975,-2.65 6.725,-2.65 ; 5.975,2.65 6.725,2.65 ; 8.515,-2.65 9.265,-2.65 ; 8.515,2.65 9.265,2.65 ; 11.055,-2.65 11.805,-2.65 ; 11.055,2.65 11.805,2.65 ; 13.595,-2.65 14.345,-2.65 ; 13.595,2.65 14.345,2.65 ; 16.135,-2.65 16.885,-2.65 ; 16.135,2.65 16.885,2.65 ; 18.675,-2.65 19.425,-2.65 ; 18.675,2.65 19.425,2.65 ; 21.215,-2.65 21.965,-2.65 ; 21.215,2.65 21.965,2.65 ; 23.755,-2.65 24.505,-2.65 ; 23.755,2.65 24.505,2.65 ; 26.295,-2.65 27.045,-2.65 ; 26.295,2.65 27.045,2.65 ; 28.835,-2.65 29.585,-2.65 ; 28.835,2.65 29.585,2.65 ; 31.375,-2.65 32.125,-2.65 ; 31.375,2.65 32.125,2.65 ; 33.915,-2.65 34.665,-2.65 ; 33.915,2.65 34.665,2.65 ; 36.455,-2.65 37.205,-2.65 ; 36.455,2.65 37.205,2.65 ; 38.995,-2.65 39.745,-2.65 ; 38.995,2.65 39.745,2.65 ; 41.535,-2.65 42.285,-2.65 ; 41.535,2.65 42.285,2.65 ; 44.075,-2.65 44.825,-2.65 ; 44.075,2.65 44.825,2.65 ; 46.615,-2.65 47.365,-2.65 ; 46.615,2.65 47.365,2.65 ; 49.155,-2.65 49.905,-2.65 ; 49.155,2.65 49.905,2.65 ; 51.695,-2.65 52.445,-2.65 ; 51.695,2.65 52.445,2.65 ; 54.235,-2.65 54.985,-2.65 ; 54.235,2.65 54.985,2.65 ; 56.775,-2.65 57.26,-2.65 57.26,2.65 56.775,2.65
Top Assembly:
  lines w0.254: -56.38,2.54 -55.88,1.833 -55.38,2.54 ; -57.15,-2.54 57.15,-2.54 57.15,2.54 -57.15,2.54 -57.15,-2.54
  text "'.Designator'" at -4.047,-2.68 h1
Top Courtyard:
  lines w0.254: -57.65,-4.07 57.65,-4.07 57.65,4.07 -57.65,4.07 -57.65,-4.07
Top Designator:
  text ".Designator" at -7.618,-0.508 h1.52

## Samtec_HLE-145-02-xxx-DV-LC_2x45_P2.54mm_Horizontal [mm]
pads (92):
  rect 1.27x2.29 smd: 1(-55.88,2.525) 2(-55.88,-2.525) 3(-53.34,2.525) 4(-53.34,-2.525) 5(-50.8,2.525) 6(-50.8,-2.525) 7(-48.26,2.525) 8(-48.26,-2.525) 9(-45.72,2.525) 10(-45.72,-2.525) 11(-43.18,2.525) 12(-43.18,-2.525) 13(-40.64,2.525) 14(-40.64,-2.525) 15(-38.1,2.525) 16(-38.1,-2.525) 17(-35.56,2.525) 18(-35.56,-2.525) 19(-33.02,2.525) 20(-33.02,-2.525) 21(-30.48,2.525) 22(-30.48,-2.525) 23(-27.94,2.525) 24(-27.94,-2.525) 25(-25.4,2.525) 26(-25.4,-2.525) 27(-22.86,2.525) 28(-22.86,-2.525) 29(-20.32,2.525) 30(-20.32,-2.525) 31(-17.78,2.525) 32(-17.78,-2.525) 33(-15.24,2.525) 34(-15.24,-2.525) 35(-12.7,2.525) 36(-12.7,-2.525) 37(-10.16,2.525) 38(-10.16,-2.525) 39(-7.62,2.525) 40(-7.62,-2.525) 41(-5.08,2.525) 42(-5.08,-2.525) 43(-2.54,2.525) 44(-2.54,-2.525) 45(0,2.525) 46(0,-2.525) 47(2.54,2.525) 48(2.54,-2.525) 49(5.08,2.525) 50(5.08,-2.525) 51(7.62,2.525) 52(7.62,-2.525) 53(10.16,2.525) 54(10.16,-2.525) 55(12.7,2.525) 56(12.7,-2.525) 57(15.24,2.525) 58(15.24,-2.525) 59(17.78,2.525) 60(17.78,-2.525) 61(20.32,2.525) 62(20.32,-2.525) 63(22.86,2.525) 64(22.86,-2.525) 65(25.4,2.525) 66(25.4,-2.525) 67(27.94,2.525) 68(27.94,-2.525) 69(30.48,2.525) 70(30.48,-2.525) 71(33.02,2.525) 72(33.02,-2.525) 73(35.56,2.525) 74(35.56,-2.525) 75(38.1,2.525) 76(38.1,-2.525) 77(40.64,2.525) 78(40.64,-2.525) 79(43.18,2.525) 80(43.18,-2.525) 81(45.72,2.525) 82(45.72,-2.525) 83(48.26,2.525) 84(48.26,-2.525) 85(50.8,2.525) 86(50.8,-2.525) 87(53.34,2.525) 88(53.34,-2.525) 89(55.88,2.525) 90(55.88,-2.525)
  round 1.19 hole 1.19: Un1(-54.61,0) Un2(54.61,0)
F.SilkS:
  lines w0.254: -56.775,-2.65 -57.26,-2.65 -57.26,2.65 -56.775,2.65 -56.775,3.67 ; -54.985,-2.65 -54.235,-2.65 ; -54.985,2.65 -54.235,2.65 ; -52.445,-2.65 -51.695,-2.65 ; -52.445,2.65 -51.695,2.65 ; -49.905,-2.65 -49.155,-2.65 ; -49.905,2.65 -49.155,2.65 ; -47.365,-2.65 -46.615,-2.65 ; -47.365,2.65 -46.615,2.65 ; -44.825,-2.65 -44.075,-2.65 ; -44.825,2.65 -44.075,2.65 ; -42.285,-2.65 -41.535,-2.65 ; -42.285,2.65 -41.535,2.65 ; -39.745,-2.65 -38.995,-2.65 ; -39.745,2.65 -38.995,2.65 ; -37.205,-2.65 -36.455,-2.65 ; -37.205,2.65 -36.455,2.65 ; -34.665,-2.65 -33.915,-2.65 ; -34.665,2.65 -33.915,2.65 ; -32.125,-2.65 -31.375,-2.65 ; -32.125,2.65 -31.375,2.65 ; -29.585,-2.65 -28.835,-2.65 ; -29.585,2.65 -28.835,2.65 ; -27.045,-2.65 -26.295,-2.65 ; -27.045,2.65 -26.295,2.65 ; -24.505,-2.65 -23.755,-2.65 ; -24.505,2.65 -23.755,2.65 ; -21.965,-2.65 -21.215,-2.65 ; -21.965,2.65 -21.215,2.65 ; -19.425,-2.65 -18.675,-2.65 ; -19.425,2.65 -18.675,2.65 ; -16.885,-2.65 -16.135,-2.65 ; -16.885,2.65 -16.135,2.65 ; -14.345,-2.65 -13.595,-2.65 ; -14.345,2.65 -13.595,2.65 ; -11.805,-2.65 -11.055,-2.65 ; -11.805,2.65 -11.055,2.65 ; -9.265,-2.65 -8.515,-2.65 ; -9.265,2.65 -8.515,2.65 ; -6.725,-2.65 -5.975,-2.65 ; -6.725,2.65 -5.975,2.65 ; -4.185,-2.65 -3.435,-2.65 ; -4.185,2.65 -3.435,2.65 ; -1.645,-2.65 -0.895,-2.65 ; -1.645,2.65 -0.895,2.65 ; 0.895,-2.65 1.645,-2.65 ; 0.895,2.65 1.645,2.65 ; 3.435,-2.65 4.185,-2.65 ; 3.435,2.65 4.185,2.65 ; 5.975,-2.65 6.725,-2.65 ; 5.975,2.65 6.725,2.65 ; 8.515,-2.65 9.265,-2.65 ; 8.515,2.65 9.265,2.65 ; 11.055,-2.65 11.805,-2.65 ; 11.055,2.65 11.805,2.65 ; 13.595,-2.65 14.345,-2.65 ; 13.595,2.65 14.345,2.65 ; 16.135,-2.65 16.885,-2.65 ; 16.135,2.65 16.885,2.65 ; 18.675,-2.65 19.425,-2.65 ; 18.675,2.65 19.425,2.65 ; 21.215,-2.65 21.965,-2.65 ; 21.215,2.65 21.965,2.65 ; 23.755,-2.65 24.505,-2.65 ; 23.755,2.65 24.505,2.65 ; 26.295,-2.65 27.045,-2.65 ; 26.295,2.65 27.045,2.65 ; 28.835,-2.65 29.585,-2.65 ; 28.835,2.65 29.585,2.65 ; 31.375,-2.65 32.125,-2.65 ; 31.375,2.65 32.125,2.65 ; 33.915,-2.65 34.665,-2.65 ; 33.915,2.65 34.665,2.65 ; 36.455,-2.65 37.205,-2.65 ; 36.455,2.65 37.205,2.65 ; 38.995,-2.65 39.745,-2.65 ; 38.995,2.65 39.745,2.65 ; 41.535,-2.65 42.285,-2.65 ; 41.535,2.65 42.285,2.65 ; 44.075,-2.65 44.825,-2.65 ; 44.075,2.65 44.825,2.65 ; 46.615,-2.65 47.365,-2.65 ; 46.615,2.65 47.365,2.65 ; 49.155,-2.65 49.905,-2.65 ; 49.155,2.65 49.905,2.65 ; 51.695,-2.65 52.445,-2.65 ; 51.695,2.65 52.445,2.65 ; 54.235,-2.65 54.985,-2.65 ; 54.235,2.65 54.985,2.65 ; 56.775,-2.65 57.26,-2.65 57.26,2.65 56.775,2.65
Top Assembly:
  lines w0.254: -56.38,2.54 -55.88,1.833 -55.38,2.54 ; -57.15,-2.54 57.15,-2.54 57.15,2.54 -57.15,2.54 -57.15,-2.54
  text "'.Designator'" at -4.047,-2.68 h1
Top Courtyard:
  lines w0.254: -57.65,-4.17 57.65,-4.17 57.65,4.17 -57.65,4.17 -57.65,-4.17
Top Designator:
  text ".Designator" at -7.618,-0.508 h1.52

## Samtec_HLE-145-02-xxx-DV_2x45_P2.54mm_Horizontal [mm]
pads (90):
  rect 1.27x2.29 smd: 1(-55.88,2.525) 2(-55.88,-2.525) 3(-53.34,2.525) 4(-53.34,-2.525) 5(-50.8,2.525) 6(-50.8,-2.525) 7(-48.26,2.525) 8(-48.26,-2.525) 9(-45.72,2.525) 10(-45.72,-2.525) 11(-43.18,2.525) 12(-43.18,-2.525) 13(-40.64,2.525) 14(-40.64,-2.525) 15(-38.1,2.525) 16(-38.1,-2.525) 17(-35.56,2.525) 18(-35.56,-2.525) 19(-33.02,2.525) 20(-33.02,-2.525) 21(-30.48,2.525) 22(-30.48,-2.525) 23(-27.94,2.525) 24(-27.94,-2.525) 25(-25.4,2.525) 26(-25.4,-2.525) 27(-22.86,2.525) 28(-22.86,-2.525) 29(-20.32,2.525) 30(-20.32,-2.525) 31(-17.78,2.525) 32(-17.78,-2.525) 33(-15.24,2.525) 34(-15.24,-2.525) 35(-12.7,2.525) 36(-12.7,-2.525) 37(-10.16,2.525) 38(-10.16,-2.525) 39(-7.62,2.525) 40(-7.62,-2.525) 41(-5.08,2.525) 42(-5.08,-2.525) 43(-2.54,2.525) 44(-2.54,-2.525) 45(0,2.525) 46(0,-2.525) 47(2.54,2.525) 48(2.54,-2.525) 49(5.08,2.525) 50(5.08,-2.525) 51(7.62,2.525) 52(7.62,-2.525) 53(10.16,2.525) 54(10.16,-2.525) 55(12.7,2.525) 56(12.7,-2.525) 57(15.24,2.525) 58(15.24,-2.525) 59(17.78,2.525) 60(17.78,-2.525) 61(20.32,2.525) 62(20.32,-2.525) 63(22.86,2.525) 64(22.86,-2.525) 65(25.4,2.525) 66(25.4,-2.525) 67(27.94,2.525) 68(27.94,-2.525) 69(30.48,2.525) 70(30.48,-2.525) 71(33.02,2.525) 72(33.02,-2.525) 73(35.56,2.525) 74(35.56,-2.525) 75(38.1,2.525) 76(38.1,-2.525) 77(40.64,2.525) 78(40.64,-2.525) 79(43.18,2.525) 80(43.18,-2.525) 81(45.72,2.525) 82(45.72,-2.525) 83(48.26,2.525) 84(48.26,-2.525) 85(50.8,2.525) 86(50.8,-2.525) 87(53.34,2.525) 88(53.34,-2.525) 89(55.88,2.525) 90(55.88,-2.525)
F.SilkS:
  lines w0.254: -56.775,-2.65 -57.26,-2.65 -57.26,2.65 -56.775,2.65 -56.775,3.67 ; -54.985,-2.65 -54.235,-2.65 ; -54.985,2.65 -54.235,2.65 ; -52.445,-2.65 -51.695,-2.65 ; -52.445,2.65 -51.695,2.65 ; -49.905,-2.65 -49.155,-2.65 ; -49.905,2.65 -49.155,2.65 ; -47.365,-2.65 -46.615,-2.65 ; -47.365,2.65 -46.615,2.65 ; -44.825,-2.65 -44.075,-2.65 ; -44.825,2.65 -44.075,2.65 ; -42.285,-2.65 -41.535,-2.65 ; -42.285,2.65 -41.535,2.65 ; -39.745,-2.65 -38.995,-2.65 ; -39.745,2.65 -38.995,2.65 ; -37.205,-2.65 -36.455,-2.65 ; -37.205,2.65 -36.455,2.65 ; -34.665,-2.65 -33.915,-2.65 ; -34.665,2.65 -33.915,2.65 ; -32.125,-2.65 -31.375,-2.65 ; -32.125,2.65 -31.375,2.65 ; -29.585,-2.65 -28.835,-2.65 ; -29.585,2.65 -28.835,2.65 ; -27.045,-2.65 -26.295,-2.65 ; -27.045,2.65 -26.295,2.65 ; -24.505,-2.65 -23.755,-2.65 ; -24.505,2.65 -23.755,2.65 ; -21.965,-2.65 -21.215,-2.65 ; -21.965,2.65 -21.215,2.65 ; -19.425,-2.65 -18.675,-2.65 ; -19.425,2.65 -18.675,2.65 ; -16.885,-2.65 -16.135,-2.65 ; -16.885,2.65 -16.135,2.65 ; -14.345,-2.65 -13.595,-2.65 ; -14.345,2.65 -13.595,2.65 ; -11.805,-2.65 -11.055,-2.65 ; -11.805,2.65 -11.055,2.65 ; -9.265,-2.65 -8.515,-2.65 ; -9.265,2.65 -8.515,2.65 ; -6.725,-2.65 -5.975,-2.65 ; -6.725,2.65 -5.975,2.65 ; -4.185,-2.65 -3.435,-2.65 ; -4.185,2.65 -3.435,2.65 ; -1.645,-2.65 -0.895,-2.65 ; -1.645,2.65 -0.895,2.65 ; 0.895,-2.65 1.645,-2.65 ; 0.895,2.65 1.645,2.65 ; 3.435,-2.65 4.185,-2.65 ; 3.435,2.65 4.185,2.65 ; 5.975,-2.65 6.725,-2.65 ; 5.975,2.65 6.725,2.65 ; 8.515,-2.65 9.265,-2.65 ; 8.515,2.65 9.265,2.65 ; 11.055,-2.65 11.805,-2.65 ; 11.055,2.65 11.805,2.65 ; 13.595,-2.65 14.345,-2.65 ; 13.595,2.65 14.345,2.65 ; 16.135,-2.65 16.885,-2.65 ; 16.135,2.65 16.885,2.65 ; 18.675,-2.65 19.425,-2.65 ; 18.675,2.65 19.425,2.65 ; 21.215,-2.65 21.965,-2.65 ; 21.215,2.65 21.965,2.65 ; 23.755,-2.65 24.505,-2.65 ; 23.755,2.65 24.505,2.65 ; 26.295,-2.65 27.045,-2.65 ; 26.295,2.65 27.045,2.65 ; 28.835,-2.65 29.585,-2.65 ; 28.835,2.65 29.585,2.65 ; 31.375,-2.65 32.125,-2.65 ; 31.375,2.65 32.125,2.65 ; 33.915,-2.65 34.665,-2.65 ; 33.915,2.65 34.665,2.65 ; 36.455,-2.65 37.205,-2.65 ; 36.455,2.65 37.205,2.65 ; 38.995,-2.65 39.745,-2.65 ; 38.995,2.65 39.745,2.65 ; 41.535,-2.65 42.285,-2.65 ; 41.535,2.65 42.285,2.65 ; 44.075,-2.65 44.825,-2.65 ; 44.075,2.65 44.825,2.65 ; 46.615,-2.65 47.365,-2.65 ; 46.615,2.65 47.365,2.65 ; 49.155,-2.65 49.905,-2.65 ; 49.155,2.65 49.905,2.65 ; 51.695,-2.65 52.445,-2.65 ; 51.695,2.65 52.445,2.65 ; 54.235,-2.65 54.985,-2.65 ; 54.235,2.65 54.985,2.65 ; 56.775,-2.65 57.26,-2.65 57.26,2.65 56.775,2.65
Top Assembly:
  lines w0.254: -56.38,2.54 -55.88,1.833 -55.38,2.54 ; -57.15,-2.54 57.15,-2.54 57.15,2.54 -57.15,2.54 -57.15,-2.54
  text "'.Designator'" at -4.047,-2.68 h1
Top Courtyard:
  lines w0.254: -57.65,-4.17 57.65,-4.17 57.65,4.17 -57.65,4.17 -57.65,-4.17
Top Designator:
  text ".Designator" at -7.618,-0.508 h1.52

## Samtec_HLE-146-02-xxx-DV-A_2x46_P2.54mm_Horizontal [mm]
pads (94):
  rect 1.27x2.29 smd: 1(-57.15,2.525) 2(-57.15,-2.525) 3(-54.61,2.525) 4(-54.61,-2.525) 5(-52.07,2.525) 6(-52.07,-2.525) 7(-49.53,2.525) 8(-49.53,-2.525) 9(-46.99,2.525) 10(-46.99,-2.525) 11(-44.45,2.525) 12(-44.45,-2.525) 13(-41.91,2.525) 14(-41.91,-2.525) 15(-39.37,2.525) 16(-39.37,-2.525) 17(-36.83,2.525) 18(-36.83,-2.525) 19(-34.29,2.525) 20(-34.29,-2.525) 21(-31.75,2.525) 22(-31.75,-2.525) 23(-29.21,2.525) 24(-29.21,-2.525) 25(-26.67,2.525) 26(-26.67,-2.525) 27(-24.13,2.525) 28(-24.13,-2.525) 29(-21.59,2.525) 30(-21.59,-2.525) 31(-19.05,2.525) 32(-19.05,-2.525) 33(-16.51,2.525) 34(-16.51,-2.525) 35(-13.97,2.525) 36(-13.97,-2.525) 37(-11.43,2.525) 38(-11.43,-2.525) 39(-8.89,2.525) 40(-8.89,-2.525) 41(-6.35,2.525) 42(-6.35,-2.525) 43(-3.81,2.525) 44(-3.81,-2.525) 45(-1.27,2.525) 46(-1.27,-2.525) 47(1.27,2.525) 48(1.27,-2.525) 49(3.81,2.525) 50(3.81,-2.525) 51(6.35,2.525) 52(6.35,-2.525) 53(8.89,2.525) 54(8.89,-2.525) 55(11.43,2.525) 56(11.43,-2.525) 57(13.97,2.525) 58(13.97,-2.525) 59(16.51,2.525) 60(16.51,-2.525) 61(19.05,2.525) 62(19.05,-2.525) 63(21.59,2.525) 64(21.59,-2.525) 65(24.13,2.525) 66(24.13,-2.525) 67(26.67,2.525) 68(26.67,-2.525) 69(29.21,2.525) 70(29.21,-2.525) 71(31.75,2.525) 72(31.75,-2.525) 73(34.29,2.525) 74(34.29,-2.525) 75(36.83,2.525) 76(36.83,-2.525) 77(39.37,2.525) 78(39.37,-2.525) 79(41.91,2.525) 80(41.91,-2.525) 81(44.45,2.525) 82(44.45,-2.525) 83(46.99,2.525) 84(46.99,-2.525) 85(49.53,2.525) 86(49.53,-2.525) 87(52.07,2.525) 88(52.07,-2.525) 89(54.61,2.525) 90(54.61,-2.525) 91(57.15,2.525) 92(57.15,-2.525)
  round 1.78 hole 1.78: Un1(-55.88,0) Un2(55.88,0)
F.SilkS:
  lines w0.254: -58.045,-2.65 -58.53,-2.65 -58.53,2.65 -58.045,2.65 -58.045,3.67 ; -56.255,-2.65 -55.505,-2.65 ; -56.255,2.65 -55.505,2.65 ; -53.715,-2.65 -52.965,-2.65 ; -53.715,2.65 -52.965,2.65 ; -51.175,-2.65 -50.425,-2.65 ; -51.175,2.65 -50.425,2.65 ; -48.635,-2.65 -47.885,-2.65 ; -48.635,2.65 -47.885,2.65 ; -46.095,-2.65 -45.345,-2.65 ; -46.095,2.65 -45.345,2.65 ; -43.555,-2.65 -42.805,-2.65 ; -43.555,2.65 -42.805,2.65 ; -41.015,-2.65 -40.265,-2.65 ; -41.015,2.65 -40.265,2.65 ; -38.475,-2.65 -37.725,-2.65 ; -38.475,2.65 -37.725,2.65 ; -35.935,-2.65 -35.185,-2.65 ; -35.935,2.65 -35.185,2.65 ; -33.395,-2.65 -32.645,-2.65 ; -33.395,2.65 -32.645,2.65 ; -30.855,-2.65 -30.105,-2.65 ; -30.855,2.65 -30.105,2.65 ; -28.315,-2.65 -27.565,-2.65 ; -28.315,2.65 -27.565,2.65 ; -25.775,-2.65 -25.025,-2.65 ; -25.775,2.65 -25.025,2.65 ; -23.235,-2.65 -22.485,-2.65 ; -23.235,2.65 -22.485,2.65 ; -20.695,-2.65 -19.945,-2.65 ; -20.695,2.65 -19.945,2.65 ; -18.155,-2.65 -17.405,-2.65 ; -18.155,2.65 -17.405,2.65 ; -15.615,-2.65 -14.865,-2.65 ; -15.615,2.65 -14.865,2.65 ; -13.075,-2.65 -12.325,-2.65 ; -13.075,2.65 -12.325,2.65 ; -10.535,-2.65 -9.785,-2.65 ; -10.535,2.65 -9.785,2.65 ; -7.995,-2.65 -7.245,-2.65 ; -7.995,2.65 -7.245,2.65 ; -5.455,-2.65 -4.705,-2.65 ; -5.455,2.65 -4.705,2.65 ; -2.915,-2.65 -2.165,-2.65 ; -2.915,2.65 -2.165,2.65 ; -0.375,-2.65 0.375,-2.65 ; -0.375,2.65 0.375,2.65 ; 2.165,-2.65 2.915,-2.65 ; 2.165,2.65 2.915,2.65 ; 4.705,-2.65 5.455,-2.65 ; 4.705,2.65 5.455,2.65 ; 7.245,-2.65 7.995,-2.65 ; 7.245,2.65 7.995,2.65 ; 9.785,-2.65 10.535,-2.65 ; 9.785,2.65 10.535,2.65 ; 12.325,-2.65 13.075,-2.65 ; 12.325,2.65 13.075,2.65 ; 14.865,-2.65 15.615,-2.65 ; 14.865,2.65 15.615,2.65 ; 17.405,-2.65 18.155,-2.65 ; 17.405,2.65 18.155,2.65 ; 19.945,-2.65 20.695,-2.65 ; 19.945,2.65 20.695,2.65 ; 22.485,-2.65 23.235,-2.65 ; 22.485,2.65 23.235,2.65 ; 25.025,-2.65 25.775,-2.65 ; 25.025,2.65 25.775,2.65 ; 27.565,-2.65 28.315,-2.65 ; 27.565,2.65 28.315,2.65 ; 30.105,-2.65 30.855,-2.65 ; 30.105,2.65 30.855,2.65 ; 32.645,-2.65 33.395,-2.65 ; 32.645,2.65 33.395,2.65 ; 35.185,-2.65 35.935,-2.65 ; 35.185,2.65 35.935,2.65 ; 37.725,-2.65 38.475,-2.65 ; 37.725,2.65 38.475,2.65 ; 40.265,-2.65 41.015,-2.65 ; 40.265,2.65 41.015,2.65 ; 42.805,-2.65 43.555,-2.65 ; 42.805,2.65 43.555,2.65 ; 45.345,-2.65 46.095,-2.65 ; 45.345,2.65 46.095,2.65 ; 47.885,-2.65 48.635,-2.65 ; 47.885,2.65 48.635,2.65 ; 50.425,-2.65 51.175,-2.65 ; 50.425,2.65 51.175,2.65 ; 52.965,-2.65 53.715,-2.65 ; 52.965,2.65 53.715,2.65 ; 55.505,-2.65 56.255,-2.65 ; 55.505,2.65 56.255,2.65 ; 58.045,-2.65 58.53,-2.65 58.53,2.65 58.045,2.65
Top Assembly:
  lines w0.254: -57.65,2.54 -57.15,1.833 -56.65,2.54 ; -58.42,-2.54 58.42,-2.54 58.42,2.54 -58.42,2.54 -58.42,-2.54
  text "'.Designator'" at -4.047,-2.68 h1
Top Courtyard:
  lines w0.254: -58.92,-4.17 58.92,-4.17 58.92,4.17 -58.92,4.17 -58.92,-4.17
Top Designator:
  text ".Designator" at -7.618,-0.508 h1.52

## Samtec_HLE-146-02-xxx-DV-BE-A_2x46_P2.54mm_Horizontal [mm]
pads (186):
  rect 1.27x1.68 smd: 1(-57.15,2.72) 2(-57.15,-2.72) 3(-54.61,2.72) 4(-54.61,-2.72) 5(-52.07,2.72) 6(-52.07,-2.72) 7(-49.53,2.72) 8(-49.53,-2.72) 9(-46.99,2.72) 10(-46.99,-2.72) 11(-44.45,2.72) 12(-44.45,-2.72) 13(-41.91,2.72) 14(-41.91,-2.72) 15(-39.37,2.72) 16(-39.37,-2.72) 17(-36.83,2.72) 18(-36.83,-2.72) 19(-34.29,2.72) 20(-34.29,-2.72) 21(-31.75,2.72) 22(-31.75,-2.72) 23(-29.21,2.72) 24(-29.21,-2.72) 25(-26.67,2.72) 26(-26.67,-2.72) 27(-24.13,2.72) 28(-24.13,-2.72) 29(-21.59,2.72) 30(-21.59,-2.72) 31(-19.05,2.72) 32(-19.05,-2.72) 33(-16.51,2.72) 34(-16.51,-2.72) 35(-13.97,2.72) 36(-13.97,-2.72) 37(-11.43,2.72) 38(-11.43,-2.72) 39(-8.89,2.72) 40(-8.89,-2.72) 41(-6.35,2.72) 42(-6.35,-2.72) 43(-3.81,2.72) 44(-3.81,-2.72) 45(-1.27,2.72) 46(-1.27,-2.72) 47(1.27,2.72) 48(1.27,-2.72) 49(3.81,2.72) 50(3.81,-2.72) 51(6.35,2.72) 52(6.35,-2.72) 53(8.89,2.72) 54(8.89,-2.72) 55(11.43,2.72) 56(11.43,-2.72) 57(13.97,2.72) 58(13.97,-2.72) 59(16.51,2.72) 60(16.51,-2.72) 61(19.05,2.72) 62(19.05,-2.72) 63(21.59,2.72) 64(21.59,-2.72) 65(24.13,2.72) 66(24.13,-2.72) 67(26.67,2.72) 68(26.67,-2.72) 69(29.21,2.72) 70(29.21,-2.72) 71(31.75,2.72) 72(31.75,-2.72) 73(34.29,2.72) 74(34.29,-2.72) 75(36.83,2.72) 76(36.83,-2.72) 77(39.37,2.72) 78(39.37,-2.72) 79(41.91,2.72) 80(41.91,-2.72) 81(44.45,2.72) 82(44.45,-2.72) 83(46.99,2.72) 84(46.99,-2.72) 85(49.53,2.72) 86(49.53,-2.72) 87(52.07,2.72) 88(52.07,-2.72) 89(54.61,2.72) 90(54.61,-2.72) 91(57.15,2.72) 92(57.15,-2.72)
  round 0.97 hole 0.97: Un1(-57.15,1.27) Un2(-57.15,-1.27) Un4(-54.61,1.27) Un5(-54.61,-1.27) Un6(-52.07,1.27) Un7(-52.07,-1.27) Un8(-49.53,1.27) Un9(-49.53,-1.27) Un10(-46.99,1.27) Un11(-46.99,-1.27) Un12(-44.45,1.27) Un13(-44.45,-1.27) Un14(-41.91,1.27) Un15(-41.91,-1.27) Un16(-39.37,1.27) Un17(-39.37,-1.27) Un18(-36.83,1.27) Un19(-36.83,-1.27) Un20(-34.29,1.27) Un21(-34.29,-1.27) Un22(-31.75,1.27) Un23(-31.75,-1.27) Un24(-29.21,1.27) Un25(-29.21,-1.27) Un26(-26.67,1.27) Un27(-26.67,-1.27) Un28(-24.13,1.27) Un29(-24.13,-1.27) Un30(-21.59,1.27) Un31(-21.59,-1.27) Un32(-19.05,1.27) Un33(-19.05,-1.27) Un34(-16.51,1.27) Un35(-16.51,-1.27) Un36(-13.97,1.27) Un37(-13.97,-1.27) Un38(-11.43,1.27) Un39(-11.43,-1.27) Un40(-8.89,1.27) Un41(-8.89,-1.27) Un42(-6.35,1.27) Un43(-6.35,-1.27) Un44(-3.81,1.27) Un45(-3.81,-1.27) Un46(-1.27,1.27) Un47(-1.27,-1.27) Un48(1.27,1.27) Un49(1.27,-1.27) Un50(3.81,1.27) Un51(3.81,-1.27) Un52(6.35,1.27) Un53(6.35,-1.27) Un54(8.89,1.27) Un55(8.89,-1.27) Un56(11.43,1.27) Un57(11.43,-1.27) Un58(13.97,1.27) Un59(13.97,-1.27) Un60(16.51,1.27) Un61(16.51,-1.27) Un62(19.05,1.27) Un63(19.05,-1.27) Un64(21.59,1.27) Un65(21.59,-1.27) Un66(24.13,1.27) Un67(24.13,-1.27) Un68(26.67,1.27) Un69(26.67,-1.27) Un70(29.21,1.27) Un71(29.21,-1.27) Un72(31.75,1.27) Un73(31.75,-1.27) Un74(34.29,1.27) Un75(34.29,-1.27) Un76(36.83,1.27) Un77(36.83,-1.27) Un78(39.37,1.27) Un79(39.37,-1.27) Un80(41.91,1.27) Un81(41.91,-1.27) Un82(44.45,1.27) Un83(44.45,-1.27) Un84(46.99,1.27) Un85(46.99,-1.27) Un86(49.53,1.27) Un87(49.53,-1.27) Un88(52.07,1.27) Un89(52.07,-1.27) Un90(54.61,1.27) Un91(54.61,-1.27) Un93(57.15,1.27) Un94(57.15,-1.27)
  round 1.78 hole 1.78: Un3(-55.88,0) Un92(55.88,0)
F.SilkS:
  lines w0.254: -58.045,-2.65 -58.53,-2.65 -58.53,2.65 -58.045,2.65 -58.045,3.56 ; -56.255,-2.65 -55.505,-2.65 ; -56.255,2.65 -55.505,2.65 ; -53.715,-2.65 -52.965,-2.65 ; -53.715,2.65 -52.965,2.65 ; -51.175,-2.65 -50.425,-2.65 ; -51.175,2.65 -50.425,2.65 ; -48.635,-2.65 -47.885,-2.65 ; -48.635,2.65 -47.885,2.65 ; -46.095,-2.65 -45.345,-2.65 ; -46.095,2.65 -45.345,2.65 ; -43.555,-2.65 -42.805,-2.65 ; -43.555,2.65 -42.805,2.65 ; -41.015,-2.65 -40.265,-2.65 ; -41.015,2.65 -40.265,2.65 ; -38.475,-2.65 -37.725,-2.65 ; -38.475,2.65 -37.725,2.65 ; -35.935,-2.65 -35.185,-2.65 ; -35.935,2.65 -35.185,2.65 ; -33.395,-2.65 -32.645,-2.65 ; -33.395,2.65 -32.645,2.65 ; -30.855,-2.65 -30.105,-2.65 ; -30.855,2.65 -30.105,2.65 ; -28.315,-2.65 -27.565,-2.65 ; -28.315,2.65 -27.565,2.65 ; -25.775,-2.65 -25.025,-2.65 ; -25.775,2.65 -25.025,2.65 ; -23.235,-2.65 -22.485,-2.65 ; -23.235,2.65 -22.485,2.65 ; -20.695,-2.65 -19.945,-2.65 ; -20.695,2.65 -19.945,2.65 ; -18.155,-2.65 -17.405,-2.65 ; -18.155,2.65 -17.405,2.65 ; -15.615,-2.65 -14.865,-2.65 ; -15.615,2.65 -14.865,2.65 ; -13.075,-2.65 -12.325,-2.65 ; -13.075,2.65 -12.325,2.65 ; -10.535,-2.65 -9.785,-2.65 ; -10.535,2.65 -9.785,2.65 ; -7.995,-2.65 -7.245,-2.65 ; -7.995,2.65 -7.245,2.65 ; -5.455,-2.65 -4.705,-2.65 ; -5.455,2.65 -4.705,2.65 ; -2.915,-2.65 -2.165,-2.65 ; -2.915,2.65 -2.165,2.65 ; -0.375,-2.65 0.375,-2.65 ; -0.375,2.65 0.375,2.65 ; 2.165,-2.65 2.915,-2.65 ; 2.165,2.65 2.915,2.65 ; 4.705,-2.65 5.455,-2.65 ; 4.705,2.65 5.455,2.65 ; 7.245,-2.65 7.995,-2.65 ; 7.245,2.65 7.995,2.65 ; 9.785,-2.65 10.535,-2.65 ; 9.785,2.65 10.535,2.65 ; 12.325,-2.65 13.075,-2.65 ; 12.325,2.65 13.075,2.65 ; 14.865,-2.65 15.615,-2.65 ; 14.865,2.65 15.615,2.65 ; 17.405,-2.65 18.155,-2.65 ; 17.405,2.65 18.155,2.65 ; 19.945,-2.65 20.695,-2.65 ; 19.945,2.65 20.695,2.65 ; 22.485,-2.65 23.235,-2.65 ; 22.485,2.65 23.235,2.65 ; 25.025,-2.65 25.775,-2.65 ; 25.025,2.65 25.775,2.65 ; 27.565,-2.65 28.315,-2.65 ; 27.565,2.65 28.315,2.65 ; 30.105,-2.65 30.855,-2.65 ; 30.105,2.65 30.855,2.65 ; 32.645,-2.65 33.395,-2.65 ; 32.645,2.65 33.395,2.65 ; 35.185,-2.65 35.935,-2.65 ; 35.185,2.65 35.935,2.65 ; 37.725,-2.65 38.475,-2.65 ; 37.725,2.65 38.475,2.65 ; 40.265,-2.65 41.015,-2.65 ; 40.265,2.65 41.015,2.65 ; 42.805,-2.65 43.555,-2.65 ; 42.805,2.65 43.555,2.65 ; 45.345,-2.65 46.095,-2.65 ; 45.345,2.65 46.095,2.65 ; 47.885,-2.65 48.635,-2.65 ; 47.885,2.65 48.635,2.65 ; 50.425,-2.65 51.175,-2.65 ; 50.425,2.65 51.175,2.65 ; 52.965,-2.65 53.715,-2.65 ; 52.965,2.65 53.715,2.65 ; 55.505,-2.65 56.255,-2.65 ; 55.505,2.65 56.255,2.65 ; 58.045,-2.65 58.53,-2.65 58.53,2.65 58.045,2.65
Top Assembly:
  lines w0.254: -57.65,2.54 -57.15,1.833 -56.65,2.54 ; -58.42,-2.54 58.42,-2.54 58.42,2.54 -58.42,2.54 -58.42,-2.54
  text "'.Designator'" at -4.047,-2.68 h1
Top Courtyard:
  lines w0.254: -58.92,-4.07 58.92,-4.07 58.92,4.07 -58.92,4.07 -58.92,-4.07
Top Designator:
  text ".Designator" at -7.618,-0.508 h1.52